# Altium footprint library Terminal(Molex).PcbLib: 1 footprints
Each footprint in its own frame and in the unit in brackets; x right, y up, seen from the top. Pads: shape width x height; smd on the part's side, far side on the other; paste and mask are expansions set on the pad; w line width, h text height; cw(c..) or ccw(c..) is an arc to the next point about the centre after c.
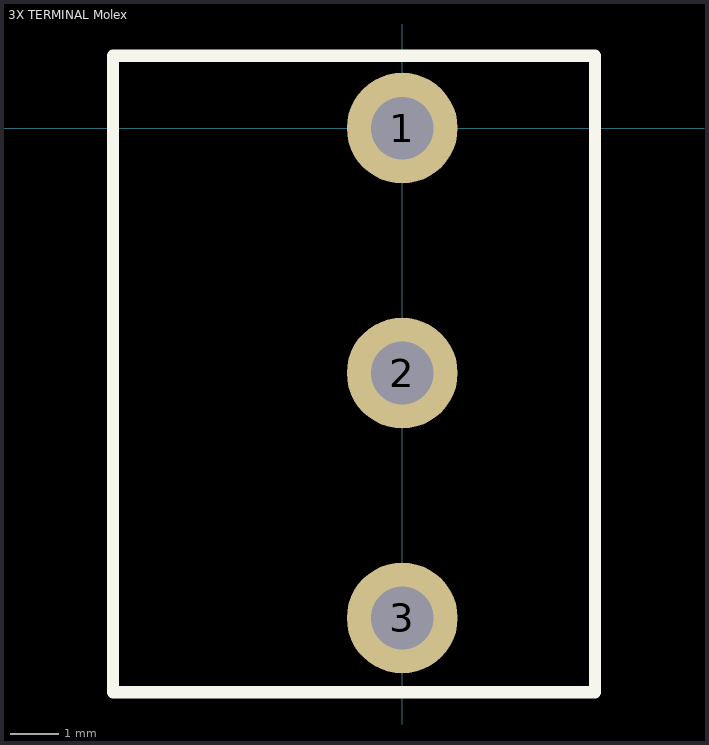
[diagram p0: the footprint, top view; thin cyan lines are the x and y axes]

## 3X TERMINAL Molex [mil]
pads (3):
  round 90.53 / inner round 60 / far side round 90.53 hole 51.17: 1(0,0) 2(0,-200) 3(0,-400)
Top Overlay:
  lines w10: -236.22,-460.63 157.48,-460.63 157.48,59.06 -236.22,59.06 -236.22,-460.63
3D body: height 551.18, standoff 0, extent -236.22,-460.63 157.48,59.06